# Altium integrated library ir_receivers.IntLib: 2 symbols
Pins are listed as number, name and electrical type; pins without a type are passive.

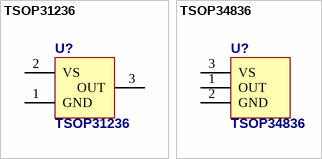
[diagram p0: symbols TSOP31236 to TSOP34836]

## TSOP31236
designator U?
36kHz IR Receiver Module for Remote Control Systems
footprint TSOP312(4)_V
footprint TSOP312(4)_H
pins: 1 GND, 2 VS, 3 OUT

## TSOP34836
designator U?
36kHz IR Receiver Module for Remote Control Systems
footprint TSOP348xx_SMD_FLAT
pins: 1 OUT, 2 GND, 3 VS